# Altium integrated library IR Discrete SCR.IntLib: 273 symbols (part 1 of 3)
Pins are listed as number, name and electrical type; pins without a type are passive.

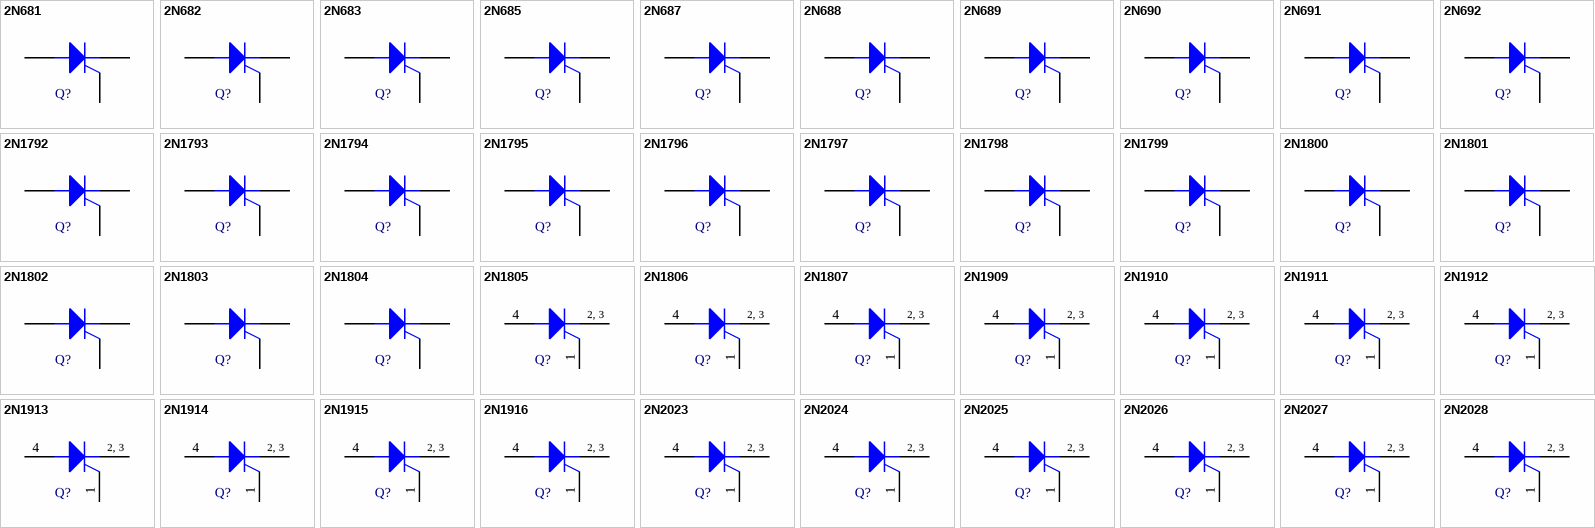
[diagram p0: symbols 2N681 to 2N2028]

## 2N681
designator Q?
25 and 35 Amp RMS SCRs; Note: No PCB Footprint Available; Published: 8-Jun-2000; LatestRevisionDate: 17-Jul-2002; LatestRevisionNote: Re-released for DXP Platform.; DatasheetVersion: PD-3.081A; PackageReference: TO-208AA; Publisher: Altium Limited; ComponentLink1Description: Manufacturer Link; ComponentLink1URL: http://www.irf.com/; ComponentLink2Description: Datasheet; ComponentLink2URL: http://www.irf.com/product-info/datasheets/data/2n681.pdf
simulation model 2N681 (SUBCKT)
pins: 1 G, 2 K, 3 A

## 2N682
designator Q?
25 and 35 Amp RMS SCRs; Note: No PCB Footprint Available; Published: 8-Jun-2000; LatestRevisionDate: 17-Jul-2002; LatestRevisionNote: Re-released for DXP Platform.; DatasheetVersion: PD-3.081A; PackageReference: TO-208AA; Publisher: Altium Limited; ComponentLink1Description: Manufacturer Link; ComponentLink1URL: http://www.irf.com/; ComponentLink2Description: Datasheet; ComponentLink2URL: http://www.irf.com/product-info/datasheets/data/2n681.pdf
simulation model 2N682 (SUBCKT)
pins: 1 G, 2 K, 3 A

## 2N683
designator Q?
25 and 35 Amp RMS SCRs; Note: No PCB Footprint Available; Published: 8-Jun-2000; LatestRevisionDate: 17-Jul-2002; LatestRevisionNote: Re-released for DXP Platform.; DatasheetVersion: PD-3.081A; PackageReference: TO-208AA; Publisher: Altium Limited; ComponentLink1Description: Manufacturer Link; ComponentLink1URL: http://www.irf.com/; ComponentLink2Description: Datasheet; ComponentLink2URL: http://www.irf.com/product-info/datasheets/data/2n681.pdf
simulation model 2N683 (SUBCKT)
pins: 1 G, 2 K, 3 A

## 2N685
designator Q?
25 and 35 Amp RMS SCRs; Note: No PCB Footprint Available; Published: 8-Jun-2000; LatestRevisionDate: 17-Jul-2002; LatestRevisionNote: Re-released for DXP Platform.; DatasheetVersion: PD-3.081A; PackageReference: TO-208AA; Publisher: Altium Limited; ComponentLink1Description: Manufacturer Link; ComponentLink1URL: http://www.irf.com/; ComponentLink2Description: Datasheet; ComponentLink2URL: http://www.irf.com/product-info/datasheets/data/2n681.pdf
simulation model 2N685 (SUBCKT)
pins: 1 G, 2 K, 3 A

## 2N687
designator Q?
25 and 35 Amp RMS SCRs; Note: No PCB Footprint Available; Published: 8-Jun-2000; LatestRevisionDate: 17-Jul-2002; LatestRevisionNote: Re-released for DXP Platform.; DatasheetVersion: PD-3.081A; PackageReference: TO-208AA; Publisher: Altium Limited; ComponentLink1Description: Manufacturer Link; ComponentLink1URL: http://www.irf.com/; ComponentLink2Description: Datasheet; ComponentLink2URL: http://www.irf.com/product-info/datasheets/data/2n681.pdf
simulation model 2N687 (SUBCKT)
pins: 1 G, 2 K, 3 A

## 2N688
designator Q?
25 and 35 Amp RMS SCRs; Note: No PCB Footprint Available; Published: 8-Jun-2000; LatestRevisionDate: 17-Jul-2002; LatestRevisionNote: Re-released for DXP Platform.; DatasheetVersion: PD-3.081A; PackageReference: TO-208AA; Publisher: Altium Limited; ComponentLink1Description: Manufacturer Link; ComponentLink1URL: http://www.irf.com/; ComponentLink2Description: Datasheet; ComponentLink2URL: http://www.irf.com/product-info/datasheets/data/2n681.pdf
simulation model 2N688 (SUBCKT)
pins: 1 G, 2 K, 3 A

## 2N689
designator Q?
25 and 35 Amp RMS SCRs; Note: No PCB Footprint Available; Published: 8-Jun-2000; LatestRevisionDate: 17-Jul-2002; LatestRevisionNote: Re-released for DXP Platform.; DatasheetVersion: PD-3.081A; PackageReference: TO-208AA; Publisher: Altium Limited; ComponentLink1Description: Manufacturer Link; ComponentLink1URL: http://www.irf.com/; ComponentLink2Description: Datasheet; ComponentLink2URL: http://www.irf.com/product-info/datasheets/data/2n681.pdf
simulation model 2N689 (SUBCKT)
pins: 1 G, 2 K, 3 A

## 2N690
designator Q?
25 and 35 Amp RMS SCRs; Note: No PCB Footprint Available; Published: 8-Jun-2000; LatestRevisionDate: 17-Jul-2002; LatestRevisionNote: Re-released for DXP Platform.; DatasheetVersion: PD-3.081A; PackageReference: TO-208AA; Publisher: Altium Limited; ComponentLink1Description: Manufacturer Link; ComponentLink1URL: http://www.irf.com/; ComponentLink2Description: Datasheet; ComponentLink2URL: http://www.irf.com/product-info/datasheets/data/2n681.pdf
simulation model 2N690 (SUBCKT)
pins: 1 G, 2 K, 3 A

## 2N691
designator Q?
25 and 35 Amp RMS SCRs; Note: No PCB Footprint Available; Published: 8-Jun-2000; LatestRevisionDate: 17-Jul-2002; LatestRevisionNote: Re-released for DXP Platform.; DatasheetVersion: PD-3.081A; PackageReference: TO-208AA; Publisher: Altium Limited; ComponentLink1Description: Manufacturer Link; ComponentLink1URL: http://www.irf.com/; ComponentLink2Description: Datasheet; ComponentLink2URL: http://www.irf.com/product-info/datasheets/data/2n681.pdf
simulation model 2N691 (SUBCKT)
pins: 1 G, 2 K, 3 A

## 2N692
designator Q?
25 and 35 Amp RMS SCRs; Note: No PCB Footprint Available; Published: 8-Jun-2000; LatestRevisionDate: 17-Jul-2002; LatestRevisionNote: Re-released for DXP Platform.; DatasheetVersion: PD-3.081A; PackageReference: TO-208AA; Publisher: Altium Limited; ComponentLink1Description: Manufacturer Link; ComponentLink1URL: http://www.irf.com/; ComponentLink2Description: Datasheet; ComponentLink2URL: http://www.irf.com/product-info/datasheets/data/2n681.pdf
simulation model 2N692 (SUBCKT)
pins: 1 G, 2 K, 3 A

## 2N1792
designator Q?
110 Amp RMS SCRs; Note: No PCB Footprint Available; Published: 8-Jun-2000; LatestRevisionDate: 17-Jul-2002; LatestRevisionNote: Re-released for DXP Platform.; DatasheetVersion: PD-3.082; PackageReference: TO-208AD; Publisher: Altium Limited; ComponentLink1Description: Manufacturer Link; ComponentLink1URL: http://www.irf.com/; ComponentLink2Description: Datasheet; ComponentLink2URL: http://www.irf.com/product-info/datasheets/data/2n1792.pdf
simulation model 2N1792 (SUBCKT)
pins: 1 G, 2 K, 3 A

## 2N1793
designator Q?
110 Amp RMS SCRs; Note: No PCB Footprint Available; Published: 8-Jun-2000; LatestRevisionDate: 17-Jul-2002; LatestRevisionNote: Re-released for DXP Platform.; DatasheetVersion: PD-3.082; PackageReference: TO-208AD; Publisher: Altium Limited; ComponentLink1Description: Manufacturer Link; ComponentLink1URL: http://www.irf.com/; ComponentLink2Description: Datasheet; ComponentLink2URL: http://www.irf.com/product-info/datasheets/data/2n1792.pdf
simulation model 2N1793 (SUBCKT)
pins: 1 G, 2 K, 3 A

## 2N1794
designator Q?
110 Amp RMS SCRs; Note: No PCB Footprint Available; Published: 8-Jun-2000; LatestRevisionDate: 17-Jul-2002; LatestRevisionNote: Re-released for DXP Platform.; DatasheetVersion: PD-3.082; PackageReference: TO-208AD; Publisher: Altium Limited; ComponentLink1Description: Manufacturer Link; ComponentLink1URL: http://www.irf.com/; ComponentLink2Description: Datasheet; ComponentLink2URL: http://www.irf.com/product-info/datasheets/data/2n1792.pdf
simulation model 2N1794 (SUBCKT)
pins: 1 G, 2 K, 3 A

## 2N1795
designator Q?
110 Amp RMS SCRs; Note: No PCB Footprint Available; Published: 8-Jun-2000; LatestRevisionDate: 17-Jul-2002; LatestRevisionNote: Re-released for DXP Platform.; DatasheetVersion: PD-3.082; PackageReference: TO-208AD; Publisher: Altium Limited; ComponentLink1Description: Manufacturer Link; ComponentLink1URL: http://www.irf.com/; ComponentLink2Description: Datasheet; ComponentLink2URL: http://www.irf.com/product-info/datasheets/data/2n1792.pdf
simulation model 2N1795 (SUBCKT)
pins: 1 G, 2 K, 3 A

## 2N1796
designator Q?
110 Amp RMS SCRs; Note: No PCB Footprint Available; Published: 8-Jun-2000; LatestRevisionDate: 17-Jul-2002; LatestRevisionNote: Re-released for DXP Platform.; DatasheetVersion: PD-3.082; PackageReference: TO-208AD; Publisher: Altium Limited; ComponentLink1Description: Manufacturer Link; ComponentLink1URL: http://www.irf.com/; ComponentLink2Description: Datasheet; ComponentLink2URL: http://www.irf.com/product-info/datasheets/data/2n1792.pdf
simulation model 2N1796 (SUBCKT)
pins: 1 G, 2 K, 3 A

## 2N1797
designator Q?
110 Amp RMS SCRs; Note: No PCB Footprint Available; Published: 8-Jun-2000; LatestRevisionDate: 17-Jul-2002; LatestRevisionNote: Re-released for DXP Platform.; DatasheetVersion: PD-3.082; PackageReference: TO-208AD; Publisher: Altium Limited; ComponentLink1Description: Manufacturer Link; ComponentLink1URL: http://www.irf.com/; ComponentLink2Description: Datasheet; ComponentLink2URL: http://www.irf.com/product-info/datasheets/data/2n1792.pdf
simulation model 2N1797 (SUBCKT)
pins: 1 G, 2 K, 3 A

## 2N1798
designator Q?
110 Amp RMS SCRs; Note: No PCB Footprint Available; Published: 8-Jun-2000; LatestRevisionDate: 17-Jul-2002; LatestRevisionNote: Re-released for DXP Platform.; DatasheetVersion: PD-3.082; PackageReference: TO-208AD; Publisher: Altium Limited; ComponentLink1Description: Manufacturer Link; ComponentLink1URL: http://www.irf.com/; ComponentLink2Description: Datasheet; ComponentLink2URL: http://www.irf.com/product-info/datasheets/data/2n1792.pdf
simulation model 2N1798 (SUBCKT)
pins: 1 G, 2 K, 3 A

## 2N1799
designator Q?
110 Amp RMS SCRs; Note: No PCB Footprint Available; Published: 8-Jun-2000; LatestRevisionDate: 17-Jul-2002; LatestRevisionNote: Re-released for DXP Platform.; DatasheetVersion: PD-3.082; PackageReference: TO-208AD; Publisher: Altium Limited; ComponentLink1Description: Manufacturer Link; ComponentLink1URL: http://www.irf.com/; ComponentLink2Description: Datasheet; ComponentLink2URL: http://www.irf.com/product-info/datasheets/data/2n1792.pdf
simulation model 2N1799 (SUBCKT)
pins: 1 G, 2 K, 3 A

## 2N1800
designator Q?
110 Amp RMS SCRs; Note: No PCB Footprint Available; Published: 8-Jun-2000; LatestRevisionDate: 17-Jul-2002; LatestRevisionNote: Re-released for DXP Platform.; DatasheetVersion: PD-3.082; PackageReference: TO-208AD; Publisher: Altium Limited; ComponentLink1Description: Manufacturer Link; ComponentLink1URL: http://www.irf.com/; ComponentLink2Description: Datasheet; ComponentLink2URL: http://www.irf.com/product-info/datasheets/data/2n1792.pdf
simulation model 2N1800 (SUBCKT)
pins: 1 G, 2 K, 3 A

## 2N1801
designator Q?
110 Amp RMS SCRs; Note: No PCB Footprint Available; Published: 8-Jun-2000; LatestRevisionDate: 17-Jul-2002; LatestRevisionNote: Re-released for DXP Platform.; DatasheetVersion: PD-3.082; PackageReference: TO-208AD; Publisher: Altium Limited; ComponentLink1Description: Manufacturer Link; ComponentLink1URL: http://www.irf.com/; ComponentLink2Description: Datasheet; ComponentLink2URL: http://www.irf.com/product-info/datasheets/data/2n1792.pdf
simulation model 2N1801 (SUBCKT)
pins: 1 G, 2 K, 3 A

## 2N1802
designator Q?
110 Amp RMS SCRs; Note: No PCB Footprint Available; Published: 8-Jun-2000; LatestRevisionDate: 17-Jul-2002; LatestRevisionNote: Re-released for DXP Platform.; DatasheetVersion: PD-3.082; PackageReference: TO-208AD; Publisher: Altium Limited; ComponentLink1Description: Manufacturer Link; ComponentLink1URL: http://www.irf.com/; ComponentLink2Description: Datasheet; ComponentLink2URL: http://www.irf.com/product-info/datasheets/data/2n1792.pdf
simulation model 2N1802 (SUBCKT)
pins: 1 G, 2 K, 3 A

## 2N1803
designator Q?
110 Amp RMS SCRs; Note: No PCB Footprint Available; Published: 8-Jun-2000; LatestRevisionDate: 17-Jul-2002; LatestRevisionNote: Re-released for DXP Platform.; DatasheetVersion: PD-3.082; PackageReference: TO-208AD; Publisher: Altium Limited; ComponentLink1Description: Manufacturer Link; ComponentLink1URL: http://www.irf.com/; ComponentLink2Description: Datasheet; ComponentLink2URL: http://www.irf.com/product-info/datasheets/data/2n1792.pdf
simulation model 2N1803 (SUBCKT)
pins: 1 G, 2 K, 3 A

## 2N1804
designator Q?
110 Amp RMS SCRs; Note: No PCB Footprint Available; Published: 8-Jun-2000; LatestRevisionDate: 17-Jul-2002; LatestRevisionNote: Re-released for DXP Platform.; DatasheetVersion: PD-3.082; PackageReference: TO-208AD; Publisher: Altium Limited; ComponentLink1Description: Manufacturer Link; ComponentLink1URL: http://www.irf.com/; ComponentLink2Description: Datasheet; ComponentLink2URL: http://www.irf.com/product-info/datasheets/data/2n1792.pdf
simulation model 2N1804 (SUBCKT)
pins: 1 G, 2 K, 3 A

## 2N1805
designator Q?
110 Amp RMS SCRs; Note: No PCB Footprint Available; Published: 8-Jun-2000; LatestRevisionDate: 17-Jul-2002; LatestRevisionNote: Re-released for DXP Platform.; DatasheetVersion: PD-3.082; PackageReference: TO-209AC; Publisher: Altium Limited; ComponentLink1Description: Manufacturer Link; ComponentLink1URL: http://www.irf.com/; ComponentLink2Description: Datasheet; ComponentLink2URL: http://www.irf.com/product-info/datasheets/data/2n1792.pdf
simulation model 2N1805 (SUBCKT)
pins: 1 G, 2 K, 3 K, 4 A
text: 2, 3

## 2N1806
designator Q?
110 Amp RMS SCRs; Note: No PCB Footprint Available; Published: 8-Jun-2000; LatestRevisionDate: 17-Jul-2002; LatestRevisionNote: Re-released for DXP Platform.; DatasheetVersion: PD-3.082; PackageReference: TO-209AC; Publisher: Altium Limited; ComponentLink1Description: Manufacturer Link; ComponentLink1URL: http://www.irf.com/; ComponentLink2Description: Datasheet; ComponentLink2URL: http://www.irf.com/product-info/datasheets/data/2n1792.pdf
simulation model 2N1806 (SUBCKT)
pins: 1 G, 2 K, 3 K, 4 A
text: 2, 3

## 2N1807
designator Q?
110 Amp RMS SCRs; Note: No PCB Footprint Available; Published: 8-Jun-2000; LatestRevisionDate: 17-Jul-2002; LatestRevisionNote: Re-released for DXP Platform.; DatasheetVersion: PD-3.082; PackageReference: TO-209AC; Publisher: Altium Limited; ComponentLink1Description: Manufacturer Link; ComponentLink1URL: http://www.irf.com/; ComponentLink2Description: Datasheet; ComponentLink2URL: http://www.irf.com/product-info/datasheets/data/2n1792.pdf
simulation model 2N1807 (SUBCKT)
pins: 1 G, 2 K, 3 K, 4 A
text: 2, 3

## 2N1909
designator Q?
110 Amp RMS SCRs; Note: No PCB Footprint Available; Published: 8-Jun-2000; LatestRevisionDate: 17-Jul-2002; LatestRevisionNote: Re-released for DXP Platform.; DatasheetVersion: PD-3.082; PackageReference: TO-209AC; Publisher: Altium Limited; ComponentLink1Description: Manufacturer Link; ComponentLink1URL: http://www.irf.com/; ComponentLink2Description: Datasheet; ComponentLink2URL: http://www.irf.com/product-info/datasheets/data/2n1792.pdf
simulation model 2N1909 (SUBCKT)
pins: 1 G, 2 K, 3 K, 4 A
text: 2, 3

## 2N1910
designator Q?
110 Amp RMS SCRs; Note: No PCB Footprint Available; Published: 8-Jun-2000; LatestRevisionDate: 17-Jul-2002; LatestRevisionNote: Re-released for DXP Platform.; DatasheetVersion: PD-3.082; PackageReference: TO-209AC; Publisher: Altium Limited; ComponentLink1Description: Manufacturer Link; ComponentLink1URL: http://www.irf.com/; ComponentLink2Description: Datasheet; ComponentLink2URL: http://www.irf.com/product-info/datasheets/data/2n1792.pdf
simulation model 2N1910 (SUBCKT)
pins: 1 G, 2 K, 3 K, 4 A
text: 2, 3

## 2N1911
designator Q?
110 Amp RMS SCRs; Note: No PCB Footprint Available; Published: 8-Jun-2000; LatestRevisionDate: 17-Jul-2002; LatestRevisionNote: Re-released for DXP Platform.; DatasheetVersion: PD-3.082; PackageReference: TO-209AC; Publisher: Altium Limited; ComponentLink1Description: Manufacturer Link; ComponentLink1URL: http://www.irf.com/; ComponentLink2Description: Datasheet; ComponentLink2URL: http://www.irf.com/product-info/datasheets/data/2n1792.pdf
simulation model 2N1911 (SUBCKT)
pins: 1 G, 2 K, 3 K, 4 A
text: 2, 3

## 2N1912
designator Q?
110 Amp RMS SCRs; Note: No PCB Footprint Available; Published: 8-Jun-2000; LatestRevisionDate: 17-Jul-2002; LatestRevisionNote: Re-released for DXP Platform.; DatasheetVersion: PD-3.082; PackageReference: TO-209AC; Publisher: Altium Limited; ComponentLink1Description: Manufacturer Link; ComponentLink1URL: http://www.irf.com/; ComponentLink2Description: Datasheet; ComponentLink2URL: http://www.irf.com/product-info/datasheets/data/2n1792.pdf
simulation model 2N1912 (SUBCKT)
pins: 1 G, 2 K, 3 K, 4 A
text: 2, 3

## 2N1913
designator Q?
110 Amp RMS SCRs; Note: No PCB Footprint Available; Published: 8-Jun-2000; LatestRevisionDate: 17-Jul-2002; LatestRevisionNote: Re-released for DXP Platform.; DatasheetVersion: PD-3.082; PackageReference: TO-209AC; Publisher: Altium Limited; ComponentLink1Description: Manufacturer Link; ComponentLink1URL: http://www.irf.com/; ComponentLink2Description: Datasheet; ComponentLink2URL: http://www.irf.com/product-info/datasheets/data/2n1792.pdf
simulation model 2N1913 (SUBCKT)
pins: 1 G, 2 K, 3 K, 4 A
text: 2, 3

## 2N1914
designator Q?
110 Amp RMS SCRs; Note: No PCB Footprint Available; Published: 8-Jun-2000; LatestRevisionDate: 17-Jul-2002; LatestRevisionNote: Re-released for DXP Platform.; DatasheetVersion: PD-3.082; PackageReference: TO-209AC; Publisher: Altium Limited; ComponentLink1Description: Manufacturer Link; ComponentLink1URL: http://www.irf.com/; ComponentLink2Description: Datasheet; ComponentLink2URL: http://www.irf.com/product-info/datasheets/data/2n1792.pdf
simulation model 2N1914 (SUBCKT)
pins: 1 G, 2 K, 3 K, 4 A
text: 2, 3

## 2N1915
designator Q?
110 Amp RMS SCRs; Note: No PCB Footprint Available; Published: 8-Jun-2000; LatestRevisionDate: 17-Jul-2002; LatestRevisionNote: Re-released for DXP Platform.; DatasheetVersion: PD-3.082; PackageReference: TO-209AC; Publisher: Altium Limited; ComponentLink1Description: Manufacturer Link; ComponentLink1URL: http://www.irf.com/; ComponentLink2Description: Datasheet; ComponentLink2URL: http://www.irf.com/product-info/datasheets/data/2n1792.pdf
simulation model 2N1915 (SUBCKT)
pins: 1 G, 2 K, 3 K, 4 A
text: 2, 3

## 2N1916
designator Q?
110 Amp RMS SCRs; Note: No PCB Footprint Available; Published: 8-Jun-2000; LatestRevisionDate: 17-Jul-2002; LatestRevisionNote: Re-released for DXP Platform.; DatasheetVersion: PD-3.082; PackageReference: TO-209AC; Publisher: Altium Limited; ComponentLink1Description: Manufacturer Link; ComponentLink1URL: http://www.irf.com/; ComponentLink2Description: Datasheet; ComponentLink2URL: http://www.irf.com/product-info/datasheets/data/2n1792.pdf
simulation model 2N1916 (SUBCKT)
pins: 1 G, 2 K, 3 K, 4 A
text: 2, 3

## 2N2023
designator Q?
110 Amp RMS SCRs; Note: No PCB Footprint Available; Published: 8-Jun-2000; LatestRevisionDate: 17-Jul-2002; LatestRevisionNote: Re-released for DXP Platform.; DatasheetVersion: PD-3.082; PackageReference: TO-209AC; Publisher: Altium Limited; ComponentLink1Description: Manufacturer Link; ComponentLink1URL: http://www.irf.com/; ComponentLink2Description: Datasheet; ComponentLink2URL: http://www.irf.com/product-info/datasheets/data/2n1792.pdf
simulation model 2N2023 (SUBCKT)
pins: 1 G, 2 K, 3 K, 4 A
text: 2, 3

## 2N2024
designator Q?
110 Amp RMS SCRs; Note: No PCB Footprint Available; Published: 8-Jun-2000; LatestRevisionDate: 17-Jul-2002; LatestRevisionNote: Re-released for DXP Platform.; DatasheetVersion: PD-3.082; PackageReference: TO-209AC; Publisher: Altium Limited; ComponentLink1Description: Manufacturer Link; ComponentLink1URL: http://www.irf.com/; ComponentLink2Description: Datasheet; ComponentLink2URL: http://www.irf.com/product-info/datasheets/data/2n1792.pdf
simulation model 2N2024 (SUBCKT)
pins: 1 G, 2 K, 3 K, 4 A
text: 2, 3

## 2N2025
designator Q?
110 Amp RMS SCRs; Note: No PCB Footprint Available; Published: 8-Jun-2000; LatestRevisionDate: 17-Jul-2002; LatestRevisionNote: Re-released for DXP Platform.; DatasheetVersion: PD-3.082; PackageReference: TO-209AC; Publisher: Altium Limited; ComponentLink1Description: Manufacturer Link; ComponentLink1URL: http://www.irf.com/; ComponentLink2Description: Datasheet; ComponentLink2URL: http://www.irf.com/product-info/datasheets/data/2n1792.pdf
simulation model 2N2025 (SUBCKT)
pins: 1 G, 2 K, 3 K, 4 A
text: 2, 3

## 2N2026
designator Q?
110 Amp RMS SCRs; Note: No PCB Footprint Available; Published: 8-Jun-2000; LatestRevisionDate: 17-Jul-2002; LatestRevisionNote: Re-released for DXP Platform.; DatasheetVersion: PD-3.082; PackageReference: TO-209AC; Publisher: Altium Limited; ComponentLink1Description: Manufacturer Link; ComponentLink1URL: http://www.irf.com/; ComponentLink2Description: Datasheet; ComponentLink2URL: http://www.irf.com/product-info/datasheets/data/2n1792.pdf
simulation model 2N2026 (SUBCKT)
pins: 1 G, 2 K, 3 K, 4 A
text: 2, 3

## 2N2027
designator Q?
110 Amp RMS SCRs; Note: No PCB Footprint Available; Published: 8-Jun-2000; LatestRevisionDate: 17-Jul-2002; LatestRevisionNote: Re-released for DXP Platform.; DatasheetVersion: PD-3.082; PackageReference: TO-209AC; Publisher: Altium Limited; ComponentLink1Description: Manufacturer Link; ComponentLink1URL: http://www.irf.com/; ComponentLink2Description: Datasheet; ComponentLink2URL: http://www.irf.com/product-info/datasheets/data/2n1792.pdf
simulation model 2N2027 (SUBCKT)
pins: 1 G, 2 K, 3 K, 4 A
text: 2, 3

## 2N2028
designator Q?
110 Amp RMS SCRs; Note: No PCB Footprint Available; Published: 8-Jun-2000; LatestRevisionDate: 17-Jul-2002; LatestRevisionNote: Re-released for DXP Platform.; DatasheetVersion: PD-3.082; PackageReference: TO-209AC; Publisher: Altium Limited; ComponentLink1Description: Manufacturer Link; ComponentLink1URL: http://www.irf.com/; ComponentLink2Description: Datasheet; ComponentLink2URL: http://www.irf.com/product-info/datasheets/data/2n1792.pdf
simulation model 2N2028 (SUBCKT)
pins: 1 G, 2 K, 3 K, 4 A
text: 2, 3

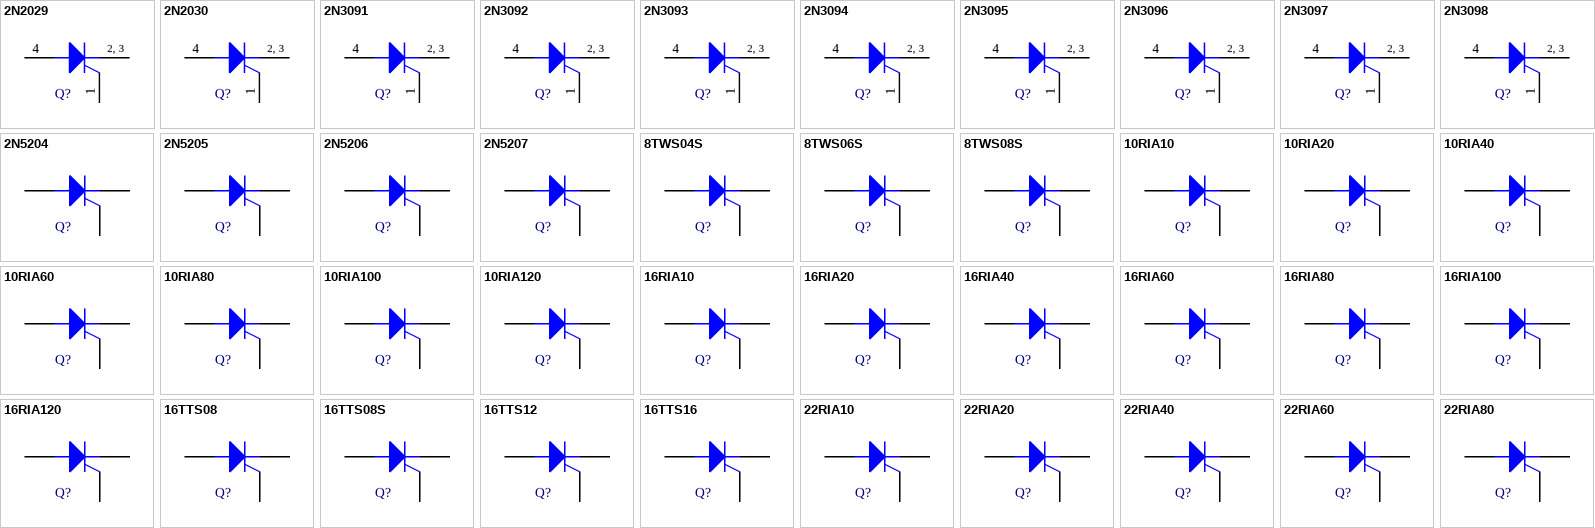
[diagram p1: symbols 2N2029 to 22RIA80]

## 2N2029
designator Q?
110 Amp RMS SCRs; Note: No PCB Footprint Available; Published: 8-Jun-2000; LatestRevisionDate: 17-Jul-2002; LatestRevisionNote: Re-released for DXP Platform.; DatasheetVersion: PD-3.082; PackageReference: TO-209AC; Publisher: Altium Limited; ComponentLink1Description: Manufacturer Link; ComponentLink1URL: http://www.irf.com/; ComponentLink2Description: Datasheet; ComponentLink2URL: http://www.irf.com/product-info/datasheets/data/2n1792.pdf
simulation model 2N2029 (SUBCKT)
pins: 1 G, 2 K, 3 K, 4 A
text: 2, 3

## 2N2030
designator Q?
110 Amp RMS SCRs; Note: No PCB Footprint Available; Published: 8-Jun-2000; LatestRevisionDate: 17-Jul-2002; LatestRevisionNote: Re-released for DXP Platform.; DatasheetVersion: PD-3.082; PackageReference: TO-209AC; Publisher: Altium Limited; ComponentLink1Description: Manufacturer Link; ComponentLink1URL: http://www.irf.com/; ComponentLink2Description: Datasheet; ComponentLink2URL: http://www.irf.com/product-info/datasheets/data/2n1792.pdf
simulation model 2N2030 (SUBCKT)
pins: 1 G, 2 K, 3 K, 4 A
text: 2, 3

## 2N3091
designator Q?
110 Amp RMS SCRs; Note: No PCB Footprint Available; Published: 8-Jun-2000; LatestRevisionDate: 17-Jul-2002; LatestRevisionNote: Re-released for DXP Platform.; DatasheetVersion: Sep-1984; PackageReference: TO-209AC; Publisher: Altium Limited; ComponentLink1Description: Manufacturer Link; ComponentLink1URL: http://www.irf.com/
simulation model 2N3091 (SUBCKT)
pins: 1 G, 2 K, 3 K, 4 A
text: 2, 3

## 2N3092
designator Q?
110 Amp RMS SCRs; Note: No PCB Footprint Available; Published: 8-Jun-2000; LatestRevisionDate: 17-Jul-2002; LatestRevisionNote: Re-released for DXP Platform.; DatasheetVersion: Sep-1984; PackageReference: TO-209AC; Publisher: Altium Limited; ComponentLink1Description: Manufacturer Link; ComponentLink1URL: http://www.irf.com/
simulation model 2N3092 (SUBCKT)
pins: 1 G, 2 K, 3 K, 4 A
text: 2, 3

## 2N3093
designator Q?
110 Amp RMS SCRs; Note: No PCB Footprint Available; Published: 8-Jun-2000; LatestRevisionDate: 17-Jul-2002; LatestRevisionNote: Re-released for DXP Platform.; DatasheetVersion: Sep-1984; PackageReference: TO-209AC; Publisher: Altium Limited; ComponentLink1Description: Manufacturer Link; ComponentLink1URL: http://www.irf.com/
simulation model 2N3093 (SUBCKT)
pins: 1 G, 2 K, 3 K, 4 A
text: 2, 3

## 2N3094
designator Q?
110 Amp RMS SCRs; Note: No PCB Footprint Available; Published: 8-Jun-2000; LatestRevisionDate: 17-Jul-2002; LatestRevisionNote: Re-released for DXP Platform.; DatasheetVersion: Sep-1984; PackageReference: TO-209AC; Publisher: Altium Limited; ComponentLink1Description: Manufacturer Link; ComponentLink1URL: http://www.irf.com/
simulation model 2N3094 (SUBCKT)
pins: 1 G, 2 K, 3 K, 4 A
text: 2, 3

## 2N3095
designator Q?
110 Amp RMS SCRs; Note: No PCB Footprint Available; Published: 8-Jun-2000; LatestRevisionDate: 17-Jul-2002; LatestRevisionNote: Re-released for DXP Platform.; DatasheetVersion: Sep-1984; PackageReference: TO-209AC; Publisher: Altium Limited; ComponentLink1Description: Manufacturer Link; ComponentLink1URL: http://www.irf.com/
simulation model 2N3095 (SUBCKT)
pins: 1 G, 2 K, 3 K, 4 A
text: 2, 3

## 2N3096
designator Q?
110 Amp RMS SCRs; Note: No PCB Footprint Available; Published: 8-Jun-2000; LatestRevisionDate: 17-Jul-2002; LatestRevisionNote: Re-released for DXP Platform.; DatasheetVersion: Sep-1984; PackageReference: TO-209AC; Publisher: Altium Limited; ComponentLink1Description: Manufacturer Link; ComponentLink1URL: http://www.irf.com/
simulation model 2N3096 (SUBCKT)
pins: 1 G, 2 K, 3 K, 4 A
text: 2, 3

## 2N3097
designator Q?
110 Amp RMS SCRs; Note: No PCB Footprint Available; Published: 8-Jun-2000; LatestRevisionDate: 17-Jul-2002; LatestRevisionNote: Re-released for DXP Platform.; DatasheetVersion: Sep-1984; PackageReference: TO-209AC; Publisher: Altium Limited; ComponentLink1Description: Manufacturer Link; ComponentLink1URL: http://www.irf.com/
simulation model 2N3097 (SUBCKT)
pins: 1 G, 2 K, 3 K, 4 A
text: 2, 3

## 2N3098
designator Q?
110 Amp RMS SCRs; Note: No PCB Footprint Available; Published: 8-Jun-2000; LatestRevisionDate: 17-Jul-2002; LatestRevisionNote: Re-released for DXP Platform.; DatasheetVersion: Sep-1984; PackageReference: TO-209AC; Publisher: Altium Limited; ComponentLink1Description: Manufacturer Link; ComponentLink1URL: http://www.irf.com/
simulation model 2N3098 (SUBCKT)
pins: 1 G, 2 K, 3 K, 4 A
text: 2, 3

## 2N5204
designator Q?
25 and 35 Amp RMS SCRs; Note: No PCB Footprint Available; Published: 8-Jun-2000; LatestRevisionDate: 17-Jul-2002; LatestRevisionNote: Re-released for DXP Platform.; DatasheetVersion: PD-3.081A; PackageReference: TO-208AA; Publisher: Altium Limited; ComponentLink1Description: Manufacturer Link; ComponentLink1URL: http://www.irf.com/; ComponentLink2Description: Datasheet; ComponentLink2URL: http://www.irf.com/product-info/datasheets/data/2n681.pdf
simulation model 2N5204 (SUBCKT)
pins: 1 G, 2 K, 3 A

## 2N5205
designator Q?
25 and 35 Amp RMS SCRs; Note: No PCB Footprint Available; Published: 8-Jun-2000; LatestRevisionDate: 17-Jul-2002; LatestRevisionNote: Re-released for DXP Platform.; DatasheetVersion: PD-3.081A; PackageReference: TO-208AA; Publisher: Altium Limited; ComponentLink1Description: Manufacturer Link; ComponentLink1URL: http://www.irf.com/; ComponentLink2Description: Datasheet; ComponentLink2URL: http://www.irf.com/product-info/datasheets/data/2n681.pdf
simulation model 2N5205 (SUBCKT)
pins: 1 G, 2 K, 3 A

## 2N5206
designator Q?
25 and 35 Amp RMS SCRs; Note: No PCB Footprint Available; Published: 8-Jun-2000; LatestRevisionDate: 17-Jul-2002; LatestRevisionNote: Re-released for DXP Platform.; DatasheetVersion: PD-3.081A; PackageReference: TO-208AA; Publisher: Altium Limited; ComponentLink1Description: Manufacturer Link; ComponentLink1URL: http://www.irf.com/; ComponentLink2Description: Datasheet; ComponentLink2URL: http://www.irf.com/product-info/datasheets/data/2n681.pdf
simulation model 2N5206 (SUBCKT)
pins: 1 G, 2 K, 3 A

## 2N5207
designator Q?
25 and 35 Amp RMS SCRs; Note: No PCB Footprint Available; Published: 8-Jun-2000; LatestRevisionDate: 17-Jul-2002; LatestRevisionNote: Re-released for DXP Platform.; DatasheetVersion: PD-3.081A; PackageReference: TO-208AA; Publisher: Altium Limited; ComponentLink1Description: Manufacturer Link; ComponentLink1URL: http://www.irf.com/; ComponentLink2Description: Datasheet; ComponentLink2URL: http://www.irf.com/product-info/datasheets/data/2n681.pdf
simulation model 2N5207 (SUBCKT)
pins: 1 G, 2 K, 3 A

## 8TWS04S
designator Q?
Phase Control SCR; Note: Pin 2 is trimmed and not drawn; Published: 8-Jun-2000; LatestRevisionDate: 17-Jul-2002; LatestRevisionNote: Re-released for DXP Platform.; DatasheetVersion: Oct-1999; PackageVersion: Feb-2003; PackageReference: TO-252AA; Publisher: Altium Limited; PackageDescription: D-PAK/TO-252-AA; 3 Leads (1 Cropped); Body 10.4 (inc. leads) x 6.7 mm (LxW max); Code_JEDEC: TO-252-AA; ComponentLink1Description: Manufacturer Link; ComponentLink1URL: http://www.irf.com/
footprint TO-252AA (D-PAK/TO-252-AA; 3 Leads (1 Cropped); Body 10.4 (inc. leads) x 6.7 mm (LxW max))
pins: 1 K, 3 G, 4 A

## 8TWS06S
designator Q?
Phase Control SCR; Note: Pin 2 is trimmed and not drawn; Published: 8-Jun-2000; LatestRevisionDate: 17-Jul-2002; LatestRevisionNote: Re-released for DXP Platform.; DatasheetVersion: Oct-1999; PackageVersion: Feb-2003; PackageReference: TO-252AA; Publisher: Altium Limited; PackageDescription: D-PAK/TO-252-AA; 3 Leads (1 Cropped); Body 10.4 (inc. leads) x 6.7 mm (LxW max); Code_JEDEC: TO-252-AA; ComponentLink1Description: Manufacturer Link; ComponentLink1URL: http://www.irf.com/
footprint TO-252AA (D-PAK/TO-252-AA; 3 Leads (1 Cropped); Body 10.4 (inc. leads) x 6.7 mm (LxW max))
pins: 1 K, 3 G, 4 A

## 8TWS08S
designator Q?
Phase Control SCR; Note: Pin 2 is trimmed and not drawn; Published: 8-Jun-2000; LatestRevisionDate: 17-Jul-2002; LatestRevisionNote: Re-released for DXP Platform.; DatasheetVersion: Oct-1999; PackageVersion: Feb-2003; PackageReference: TO-252AA; Publisher: Altium Limited; PackageDescription: D-PAK/TO-252-AA; 3 Leads (1 Cropped); Body 10.4 (inc. leads) x 6.7 mm (LxW max); Code_JEDEC: TO-252-AA; ComponentLink1Description: Manufacturer Link; ComponentLink1URL: http://www.irf.com/
footprint TO-252AA (D-PAK/TO-252-AA; 3 Leads (1 Cropped); Body 10.4 (inc. leads) x 6.7 mm (LxW max))
pins: 1 K, 3 G, 4 A

## 10RIA10
designator Q?
25A, 35A and 40A RMS Glass-passivated SCRs; Note: No PCB Footprint Available; Published: 8-Jun-2000; LatestRevisionDate: 17-Jul-2002; LatestRevisionNote: Re-released for DXP Platform.; DatasheetVersion: PD-3.060B; PackageReference: TO-208AA; Publisher: Altium Limited; ComponentLink1Description: Manufacturer Link; ComponentLink1URL: http://www.irf.com/; ComponentLink2Description: Datasheet; ComponentLink2URL: http://www.irf.com/product-info/datasheets/data/10ria.pdf
simulation model 10RIA10 (SUBCKT)
pins: 1 G, 2 K, 3 A

## 10RIA20
designator Q?
25A, 35A and 40A RMS Glass-passivated SCRs; Note: No PCB Footprint Available; Published: 8-Jun-2000; LatestRevisionDate: 17-Jul-2002; LatestRevisionNote: Re-released for DXP Platform.; DatasheetVersion: PD-3.060B; PackageReference: TO-208AA; Publisher: Altium Limited; ComponentLink1Description: Manufacturer Link; ComponentLink1URL: http://www.irf.com/; ComponentLink2Description: Datasheet; ComponentLink2URL: http://www.irf.com/product-info/datasheets/data/10ria.pdf
simulation model 10RIA20 (SUBCKT)
pins: 1 G, 2 K, 3 A

## 10RIA40
designator Q?
25A, 35A and 40A RMS Glass-passivated SCRs; Note: No PCB Footprint Available; Published: 8-Jun-2000; LatestRevisionDate: 17-Jul-2002; LatestRevisionNote: Re-released for DXP Platform.; DatasheetVersion: PD-3.060B; PackageReference: TO-208AA; Publisher: Altium Limited; ComponentLink1Description: Manufacturer Link; ComponentLink1URL: http://www.irf.com/; ComponentLink2Description: Datasheet; ComponentLink2URL: http://www.irf.com/product-info/datasheets/data/10ria.pdf
simulation model 10RIA40 (SUBCKT)
pins: 1 G, 2 K, 3 A

## 10RIA60
designator Q?
25A, 35A and 40A RMS Glass-passivated SCRs; Note: No PCB Footprint Available; Published: 8-Jun-2000; LatestRevisionDate: 17-Jul-2002; LatestRevisionNote: Re-released for DXP Platform.; DatasheetVersion: PD-3.060B; PackageReference: TO-208AA; Publisher: Altium Limited; ComponentLink1Description: Manufacturer Link; ComponentLink1URL: http://www.irf.com/; ComponentLink2Description: Datasheet; ComponentLink2URL: http://www.irf.com/product-info/datasheets/data/10ria.pdf
simulation model 10RIA60 (SUBCKT)
pins: 1 G, 2 K, 3 A

## 10RIA80
designator Q?
25A, 35A and 40A RMS Glass-passivated SCRs; Note: No PCB Footprint Available; Published: 8-Jun-2000; LatestRevisionDate: 17-Jul-2002; LatestRevisionNote: Re-released for DXP Platform.; DatasheetVersion: PD-3.060B; PackageReference: TO-208AA; Publisher: Altium Limited; ComponentLink1Description: Manufacturer Link; ComponentLink1URL: http://www.irf.com/; ComponentLink2Description: Datasheet; ComponentLink2URL: http://www.irf.com/product-info/datasheets/data/10ria.pdf
simulation model 10RIA80 (SUBCKT)
pins: 1 G, 2 K, 3 A

## 10RIA100
designator Q?
25A, 35A and 40A RMS Glass-passivated SCRs; Note: No PCB Footprint Available; Published: 8-Jun-2000; LatestRevisionDate: 17-Jul-2002; LatestRevisionNote: Re-released for DXP Platform.; DatasheetVersion: PD-3.060B; PackageReference: TO-208AA; Publisher: Altium Limited; ComponentLink1Description: Manufacturer Link; ComponentLink1URL: http://www.irf.com/; ComponentLink2Description: Datasheet; ComponentLink2URL: http://www.irf.com/product-info/datasheets/data/10ria.pdf
simulation model 10RIA100 (SUBCKT)
pins: 1 G, 2 K, 3 A

## 10RIA120
designator Q?
25A, 35A and 40A RMS Glass-passivated SCRs; Note: No PCB Footprint Available; Published: 8-Jun-2000; LatestRevisionDate: 17-Jul-2002; LatestRevisionNote: Re-released for DXP Platform.; DatasheetVersion: PD-3.060B; PackageReference: TO-208AA; Publisher: Altium Limited; ComponentLink1Description: Manufacturer Link; ComponentLink1URL: http://www.irf.com/; ComponentLink2Description: Datasheet; ComponentLink2URL: http://www.irf.com/product-info/datasheets/data/10ria.pdf
simulation model 10RIA120 (SUBCKT)
pins: 1 G, 2 K, 3 A

## 16RIA10
designator Q?
25A, 35A and 40A RMS Glass-passivated SCRs; Note: No PCB Footprint Available; Published: 8-Jun-2000; LatestRevisionDate: 17-Jul-2002; LatestRevisionNote: Re-released for DXP Platform.; DatasheetVersion: PD-3.060B; PackageReference: TO-208AA; Publisher: Altium Limited; ComponentLink1Description: Manufacturer Link; ComponentLink1URL: http://www.irf.com/; ComponentLink2Description: Datasheet; ComponentLink2URL: http://www.irf.com/product-info/datasheets/data/10ria.pdf
simulation model 16RIA10 (SUBCKT)
pins: 1 G, 2 K, 3 A

## 16RIA20
designator Q?
25A, 35A and 40A RMS Glass-passivated SCRs; Note: No PCB Footprint Available; Published: 8-Jun-2000; LatestRevisionDate: 17-Jul-2002; LatestRevisionNote: Re-released for DXP Platform.; DatasheetVersion: PD-3.060B; PackageReference: TO-208AA; Publisher: Altium Limited; ComponentLink1Description: Manufacturer Link; ComponentLink1URL: http://www.irf.com/; ComponentLink2Description: Datasheet; ComponentLink2URL: http://www.irf.com/product-info/datasheets/data/10ria.pdf
simulation model 16RIA20 (SUBCKT)
pins: 1 G, 2 K, 3 A

## 16RIA40
designator Q?
25A, 35A and 40A RMS Glass-passivated SCRs; Note: No PCB Footprint Available; Published: 8-Jun-2000; LatestRevisionDate: 17-Jul-2002; LatestRevisionNote: Re-released for DXP Platform.; DatasheetVersion: PD-3.060B; PackageReference: TO-208AA; Publisher: Altium Limited; ComponentLink1Description: Manufacturer Link; ComponentLink1URL: http://www.irf.com/; ComponentLink2Description: Datasheet; ComponentLink2URL: http://www.irf.com/product-info/datasheets/data/10ria.pdf
simulation model 16RIA40 (SUBCKT)
pins: 1 G, 2 K, 3 A

## 16RIA60
designator Q?
25A, 35A and 40A RMS Glass-passivated SCRs; Note: No PCB Footprint Available; Published: 8-Jun-2000; LatestRevisionDate: 17-Jul-2002; LatestRevisionNote: Re-released for DXP Platform.; DatasheetVersion: PD-3.060B; PackageReference: TO-208AA; Publisher: Altium Limited; ComponentLink1Description: Manufacturer Link; ComponentLink1URL: http://www.irf.com/; ComponentLink2Description: Datasheet; ComponentLink2URL: http://www.irf.com/product-info/datasheets/data/10ria.pdf
simulation model 16RIA60 (SUBCKT)
pins: 1 G, 2 K, 3 A

## 16RIA80
designator Q?
25A, 35A and 40A RMS Glass-passivated SCRs; Note: No PCB Footprint Available; Published: 8-Jun-2000; LatestRevisionDate: 17-Jul-2002; LatestRevisionNote: Re-released for DXP Platform.; DatasheetVersion: PD-3.060B; PackageReference: TO-208AA; Publisher: Altium Limited; ComponentLink1Description: Manufacturer Link; ComponentLink1URL: http://www.irf.com/; ComponentLink2Description: Datasheet; ComponentLink2URL: http://www.irf.com/product-info/datasheets/data/10ria.pdf
simulation model 16RIA80 (SUBCKT)
pins: 1 G, 2 K, 3 A

## 16RIA100
designator Q?
25A, 35A and 40A RMS Glass-passivated SCRs; Note: No PCB Footprint Available; Published: 8-Jun-2000; LatestRevisionDate: 17-Jul-2002; LatestRevisionNote: Re-released for DXP Platform.; DatasheetVersion: PD-3.060B; PackageReference: TO-208AA; Publisher: Altium Limited; ComponentLink1Description: Manufacturer Link; ComponentLink1URL: http://www.irf.com/; ComponentLink2Description: Datasheet; ComponentLink2URL: http://www.irf.com/product-info/datasheets/data/10ria.pdf
simulation model 16RIA100 (SUBCKT)
pins: 1 G, 2 K, 3 A

## 16RIA120
designator Q?
25A, 35A and 40A RMS Glass-passivated SCRs; Note: No PCB Footprint Available; Published: 8-Jun-2000; LatestRevisionDate: 17-Jul-2002; LatestRevisionNote: Re-released for DXP Platform.; DatasheetVersion: PD-3.060B; PackageReference: TO-208AA; Publisher: Altium Limited; ComponentLink1Description: Manufacturer Link; ComponentLink1URL: http://www.irf.com/; ComponentLink2Description: Datasheet; ComponentLink2URL: http://www.irf.com/product-info/datasheets/data/10ria.pdf
simulation model 16RIA120 (SUBCKT)
pins: 1 G, 2 K, 3 A

## 16TTS08
designator Q?
Phase Control SCR; Published: 8-Jun-2000; LatestRevisionDate: 17-Jul-2002; LatestRevisionNote: Re-released for DXP Platform.; DatasheetVersion: Dec-1998; PackageVersion: Dec-1998; PackageReference: TO-220AC_A; Publisher: Altium Limited; PackageDescription: TO, Thru-Hole, Vertical, Heatsink Mounted; 3 In-Line Leads; Pitch 2.54 mm; ComponentLink1Description: Manufacturer Link; ComponentLink1URL: http://www.irf.com/; ComponentLink2Description: Datasheet; ComponentLink2URL: http://www.irf.com/product-info/datasheets/data/16tts.pdf
footprint TO-220AC_A (TO, Thru-Hole, Vertical, Heatsink Mounted; 3 In-Line Leads; Pitch 2.54 mm)
pins: 1 K, 2 A, 3 G

## 16TTS08S
designator Q?
Surface Mountable Phase Control SCR; Note: Terminal 2 (anode) is the BASE; Published: 8-Jun-2000; LatestRevisionDate: 17-Jul-2002; LatestRevisionNote: Re-released for DXP Platform.; DatasheetVersion: Dec-1998; PackageReference: D2PAK; Publisher: Altium Limited; PackageDescription: D2-PAK/TO-263-AB; 3 Leads (1 Cropped); Body 15.5 (inc. leads) x 10.5 mm (LxW max); ComponentLink1Description: Manufacturer Link; ComponentLink1URL: http://www.irf.com/; ComponentLink2Description: Datasheet; ComponentLink2URL: http://www.irf.com/product-info/datasheets/data/16tts-s.pdf
footprint D2PAK (D2-PAK/TO-263-AB; 3 Leads (1 Cropped); Body 15.5 (inc. leads) x 10.5 mm (LxW max))
pins: 1 K, 2 A, 3 G

## 16TTS12
designator Q?
Phase Control SCR; Published: 8-Jun-2000; LatestRevisionDate: 17-Jul-2002; LatestRevisionNote: Re-released for DXP Platform.; DatasheetVersion: Dec-1998; PackageVersion: Dec-1998; PackageReference: TO-220AC_A; Publisher: Altium Limited; PackageDescription: TO, Thru-Hole, Vertical, Heatsink Mounted; 3 In-Line Leads; Pitch 2.54 mm; ComponentLink1Description: Manufacturer Link; ComponentLink1URL: http://www.irf.com/; ComponentLink2Description: Datasheet; ComponentLink2URL: http://www.irf.com/product-info/datasheets/data/16tts.pdf
footprint TO-220AC_A (TO, Thru-Hole, Vertical, Heatsink Mounted; 3 In-Line Leads; Pitch 2.54 mm)
pins: 1 K, 2 A, 3 G

## 16TTS16
designator Q?
Phase Control SCR; Published: 8-Jun-2000; LatestRevisionDate: 17-Jul-2002; LatestRevisionNote: Re-released for DXP Platform.; DatasheetVersion: Dec-1998; PackageVersion: Dec-1998; PackageReference: TO-220AC_A; Publisher: Altium Limited; PackageDescription: TO, Thru-Hole, Vertical, Heatsink Mounted; 3 In-Line Leads; Pitch 2.54 mm; ComponentLink1Description: Manufacturer Link; ComponentLink1URL: http://www.irf.com/; ComponentLink2Description: Datasheet; ComponentLink2URL: http://www.irf.com/product-info/datasheets/data/16tts.pdf
footprint TO-220AC_A (TO, Thru-Hole, Vertical, Heatsink Mounted; 3 In-Line Leads; Pitch 2.54 mm)
pins: 1 K, 2 A, 3 G

## 22RIA10
designator Q?
25A, 35A and 40A RMS Glass-passivated SCRs; Note: No PCB Footprint Available; Published: 8-Jun-2000; LatestRevisionDate: 17-Jul-2002; LatestRevisionNote: Re-released for DXP Platform.; DatasheetVersion: PD-3.060B; PackageReference: TO-208AA; Publisher: Altium Limited; ComponentLink1Description: Manufacturer Link; ComponentLink1URL: http://www.irf.com/; ComponentLink2Description: Datasheet; ComponentLink2URL: http://www.irf.com/product-info/datasheets/data/10ria.pdf
simulation model 22RIA10 (SUBCKT)
pins: 1 G, 2 K, 3 A

## 22RIA20
designator Q?
25A, 35A and 40A RMS Glass-passivated SCRs; Note: No PCB Footprint Available; Published: 8-Jun-2000; LatestRevisionDate: 17-Jul-2002; LatestRevisionNote: Re-released for DXP Platform.; DatasheetVersion: PD-3.060B; PackageReference: TO-208AA; Publisher: Altium Limited; ComponentLink1Description: Manufacturer Link; ComponentLink1URL: http://www.irf.com/; ComponentLink2Description: Datasheet; ComponentLink2URL: http://www.irf.com/product-info/datasheets/data/10ria.pdf
simulation model 22RIA20 (SUBCKT)
pins: 1 G, 2 K, 3 A

## 22RIA40
designator Q?
25A, 35A and 40A RMS Glass-passivated SCRs; Note: No PCB Footprint Available; Published: 8-Jun-2000; LatestRevisionDate: 17-Jul-2002; LatestRevisionNote: Re-released for DXP Platform.; DatasheetVersion: PD-3.060B; PackageReference: TO-208AA; Publisher: Altium Limited; ComponentLink1Description: Manufacturer Link; ComponentLink1URL: http://www.irf.com/; ComponentLink2Description: Datasheet; ComponentLink2URL: http://www.irf.com/product-info/datasheets/data/10ria.pdf
simulation model 22RIA40 (SUBCKT)
pins: 1 G, 2 K, 3 A

## 22RIA60
designator Q?
25A, 35A and 40A RMS Glass-passivated SCRs; Note: No PCB Footprint Available; Published: 8-Jun-2000; LatestRevisionDate: 17-Jul-2002; LatestRevisionNote: Re-released for DXP Platform.; DatasheetVersion: PD-3.060B; PackageReference: TO-208AA; Publisher: Altium Limited; ComponentLink1Description: Manufacturer Link; ComponentLink1URL: http://www.irf.com/; ComponentLink2Description: Datasheet; ComponentLink2URL: http://www.irf.com/product-info/datasheets/data/10ria.pdf
simulation model 22RIA60 (SUBCKT)
pins: 1 G, 2 K, 3 A

## 22RIA80
designator Q?
25A, 35A and 40A RMS Glass-passivated SCRs; Note: No PCB Footprint Available; Published: 8-Jun-2000; LatestRevisionDate: 17-Jul-2002; LatestRevisionNote: Re-released for DXP Platform.; DatasheetVersion: PD-3.060B; PackageReference: TO-208AA; Publisher: Altium Limited; ComponentLink1Description: Manufacturer Link; ComponentLink1URL: http://www.irf.com/; ComponentLink2Description: Datasheet; ComponentLink2URL: http://www.irf.com/product-info/datasheets/data/10ria.pdf
simulation model 22RIA80 (SUBCKT)
pins: 1 G, 2 K, 3 A

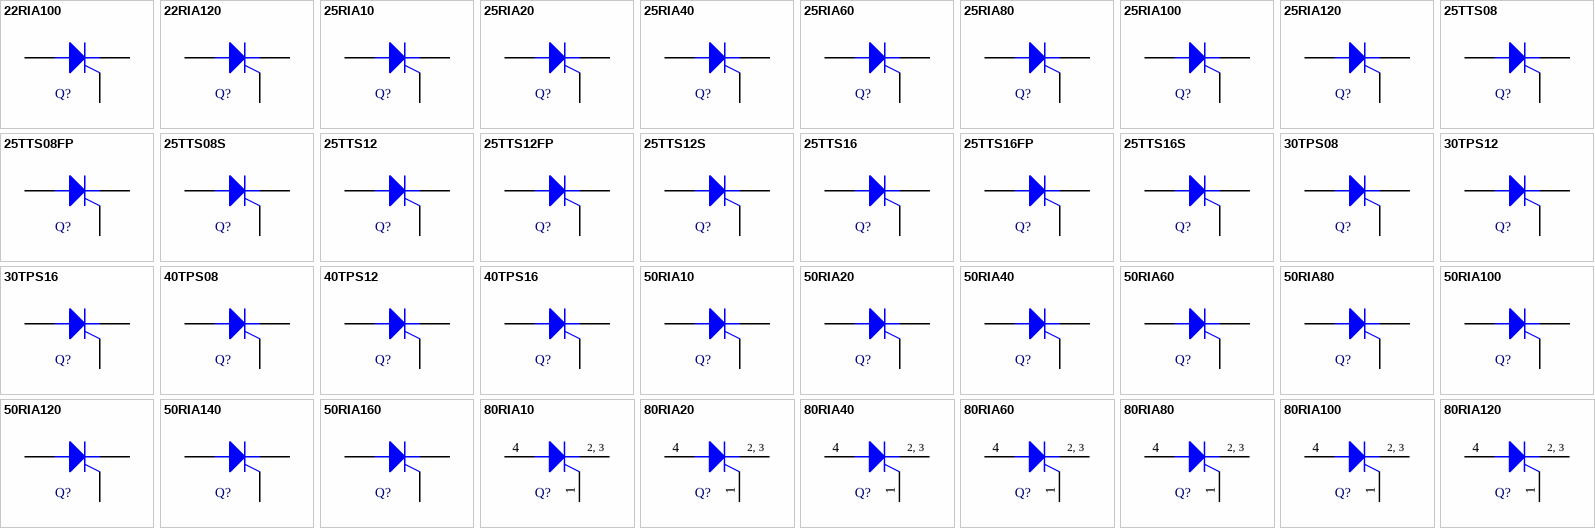
[diagram p2: symbols 22RIA100 to 80RIA120]

## 22RIA100
designator Q?
25A, 35A and 40A RMS Glass-passivated SCRs; Note: No PCB Footprint Available; Published: 8-Jun-2000; LatestRevisionDate: 17-Jul-2002; LatestRevisionNote: Re-released for DXP Platform.; DatasheetVersion: PD-3.060B; PackageReference: TO-208AA; Publisher: Altium Limited; ComponentLink1Description: Manufacturer Link; ComponentLink1URL: http://www.irf.com/; ComponentLink2Description: Datasheet; ComponentLink2URL: http://www.irf.com/product-info/datasheets/data/10ria.pdf
simulation model 22RIA100 (SUBCKT)
pins: 1 G, 2 K, 3 A

## 22RIA120
designator Q?
25A, 35A and 40A RMS Glass-passivated SCRs; Note: No PCB Footprint Available; Published: 8-Jun-2000; LatestRevisionDate: 17-Jul-2002; LatestRevisionNote: Re-released for DXP Platform.; DatasheetVersion: PD-3.060B; PackageReference: TO-208AA; Publisher: Altium Limited; ComponentLink1Description: Manufacturer Link; ComponentLink1URL: http://www.irf.com/; ComponentLink2Description: Datasheet; ComponentLink2URL: http://www.irf.com/product-info/datasheets/data/10ria.pdf
simulation model 22RIA120 (SUBCKT)
pins: 1 G, 2 K, 3 A

## 25RIA10
designator Q?
25A, 35A and 40A RMS Glass-passivated SCRs; Note: No PCB Footprint Available; Published: 8-Jun-2000; LatestRevisionDate: 17-Jul-2002; LatestRevisionNote: Re-released for DXP Platform.; DatasheetVersion: PD-3.060B; PackageReference: TO-208AA; Publisher: Altium Limited; ComponentLink1Description: Manufacturer Link; ComponentLink1URL: http://www.irf.com/; ComponentLink2Description: Datasheet; ComponentLink2URL: http://www.irf.com/product-info/datasheets/data/10ria.pdf
simulation model 25RIA10 (SUBCKT)
pins: 1 G, 2 K, 3 A

## 25RIA20
designator Q?
25A, 35A and 40A RMS Glass-passivated SCRs; Note: No PCB Footprint Available; Published: 8-Jun-2000; LatestRevisionDate: 17-Jul-2002; LatestRevisionNote: Re-released for DXP Platform.; DatasheetVersion: PD-3.060B; PackageReference: TO-208AA; Publisher: Altium Limited; ComponentLink1Description: Manufacturer Link; ComponentLink1URL: http://www.irf.com/; ComponentLink2Description: Datasheet; ComponentLink2URL: http://www.irf.com/product-info/datasheets/data/10ria.pdf
simulation model 25RIA20 (SUBCKT)
pins: 1 G, 2 K, 3 A

## 25RIA40
designator Q?
25A, 35A and 40A RMS Glass-passivated SCRs; Note: No PCB Footprint Available; Published: 8-Jun-2000; LatestRevisionDate: 17-Jul-2002; LatestRevisionNote: Re-released for DXP Platform.; DatasheetVersion: PD-3.060B; PackageReference: TO-208AA; Publisher: Altium Limited; ComponentLink1Description: Manufacturer Link; ComponentLink1URL: http://www.irf.com/; ComponentLink2Description: Datasheet; ComponentLink2URL: http://www.irf.com/product-info/datasheets/data/10ria.pdf
simulation model 25RIA40 (SUBCKT)
pins: 1 G, 2 K, 3 A

## 25RIA60
designator Q?
25A, 35A and 40A RMS Glass-passivated SCRs; Note: No PCB Footprint Available; Published: 8-Jun-2000; LatestRevisionDate: 17-Jul-2002; LatestRevisionNote: Re-released for DXP Platform.; DatasheetVersion: PD-3.060B; PackageReference: TO-208AA; Publisher: Altium Limited; ComponentLink1Description: Manufacturer Link; ComponentLink1URL: http://www.irf.com/; ComponentLink2Description: Datasheet; ComponentLink2URL: http://www.irf.com/product-info/datasheets/data/10ria.pdf
simulation model 25RIA60 (SUBCKT)
pins: 1 G, 2 K, 3 A

## 25RIA80
designator Q?
25A, 35A and 40A RMS Glass-passivated SCRs; Note: No PCB Footprint Available; Published: 8-Jun-2000; LatestRevisionDate: 17-Jul-2002; LatestRevisionNote: Re-released for DXP Platform.; DatasheetVersion: PD-3.060B; PackageReference: TO-208AA; Publisher: Altium Limited; ComponentLink1Description: Manufacturer Link; ComponentLink1URL: http://www.irf.com/; ComponentLink2Description: Datasheet; ComponentLink2URL: http://www.irf.com/product-info/datasheets/data/10ria.pdf
simulation model 25RIA80 (SUBCKT)
pins: 1 G, 2 K, 3 A

## 25RIA100
designator Q?
25A, 35A and 40A RMS Glass-passivated SCRs; Note: No PCB Footprint Available; Published: 8-Jun-2000; LatestRevisionDate: 17-Jul-2002; LatestRevisionNote: Re-released for DXP Platform.; DatasheetVersion: PD-3.060B; PackageReference: TO-208AA; Publisher: Altium Limited; ComponentLink1Description: Manufacturer Link; ComponentLink1URL: http://www.irf.com/; ComponentLink2Description: Datasheet; ComponentLink2URL: http://www.irf.com/product-info/datasheets/data/10ria.pdf
simulation model 25RIA100 (SUBCKT)
pins: 1 G, 2 K, 3 A

## 25RIA120
designator Q?
25A, 35A and 40A RMS Glass-passivated SCRs; Note: No PCB Footprint Available; Published: 8-Jun-2000; LatestRevisionDate: 17-Jul-2002; LatestRevisionNote: Re-released for DXP Platform.; DatasheetVersion: PD-3.060B; PackageReference: TO-208AA; Publisher: Altium Limited; ComponentLink1Description: Manufacturer Link; ComponentLink1URL: http://www.irf.com/; ComponentLink2Description: Datasheet; ComponentLink2URL: http://www.irf.com/product-info/datasheets/data/10ria.pdf
simulation model 25RIA120 (SUBCKT)
pins: 1 G, 2 K, 3 A

## 25TTS08
designator Q?
Phase Control SCR; Published: 8-Jun-2000; LatestRevisionDate: 17-Jul-2002; LatestRevisionNote: Re-released for DXP Platform.; DatasheetVersion: Dec-1998; PackageVersion: Mar-1999; PackageReference: TO-220AC_FP; Publisher: Altium Limited; PackageDescription: TO, Thru-Hole, Vertical, Heatsink Mounted; 3 In-Line Leads; Pitch 2.54 mm; ComponentLink1Description: Manufacturer Link; ComponentLink1URL: http://www.irf.com/; ComponentLink2Description: Datasheet; ComponentLink2URL: http://www.irf.com/product-info/datasheets/data/25tts.pdf
footprint TO-220AC_FP (TO, Thru-Hole, Vertical, Heatsink Mounted; 3 In-Line Leads; Pitch 2.54 mm)
pins: 1 K, 2 A, 3 G

## 25TTS08FP
designator Q?
Phase Control SCR TO-220 Fullpak; Published: 8-Jun-2000; LatestRevisionDate: 17-Jul-2002; LatestRevisionNote: Re-released for DXP Platform.; DatasheetVersion: Mar-1999; PackageVersion: Mar-1999; PackageReference: TO-220AC_FP; Publisher: Altium Limited; PackageDescription: TO, Thru-Hole, Vertical, Heatsink Mounted; 3 In-Line Leads; Pitch 2.54 mm; ComponentLink1Description: Manufacturer Link; ComponentLink1URL: http://www.irf.com/; ComponentLink2Description: Datasheet; ComponentLink2URL: http://www.irf.com/product-info/datasheets/data/25tts-fp.pdf
footprint TO-220AC_FP (TO, Thru-Hole, Vertical, Heatsink Mounted; 3 In-Line Leads; Pitch 2.54 mm)
pins: 1 K, 2 A, 3 G

## 25TTS08S
designator Q?
Surface Mountable Phase Control SCR; Note: Terminal 2 (anode) is the BASE; Published: 8-Jun-2000; LatestRevisionDate: 17-Jul-2002; LatestRevisionNote: Re-released for DXP Platform.; DatasheetVersion: Dec-1998; PackageReference: D2PAK; Publisher: Altium Limited; PackageDescription: D2-PAK/TO-263-AB; 3 Leads (1 Cropped); Body 15.5 (inc. leads) x 10.5 mm (LxW max); ComponentLink1Description: Manufacturer Link; ComponentLink1URL: http://www.irf.com/; ComponentLink2Description: Datasheet; ComponentLink2URL: http://www.irf.com/product-info/datasheets/data/25tts-s.pdf
footprint D2PAK (D2-PAK/TO-263-AB; 3 Leads (1 Cropped); Body 15.5 (inc. leads) x 10.5 mm (LxW max))
pins: 1 K, 2 A, 3 G